# Altium schematic symbol library Components - 02.12.20 - 13.48.SchLib: 1 symbol
Pins are listed as number, name and electrical type; pins without a type are passive.

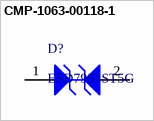
[diagram p0: symbol CMP-1063-00118-1]

## CMP-1063-00118-1
designator D?, comment ESD7951ST5G
Transient Voltage Suppressor, ESD Protection Diode with Ultra-Low Capacitance, 2-Pin SOD-923, Pb-Free, Tape and Reel; Manufacturer: On Semiconductor; C Max (pF): 0.9; VRWM Max (V): 5; IR Max (uA): 1; V(BR) Min (V): 5.4; Direction: Bidirectional; PackageReference: SOD-923-2-514AB-01; ComponentLink1URL: http://www.onsemi.com/; RoHS: Pb-Free; Packing: Tape and Reel; PartNumber: ESD7951ST5G; ComponentLink2URL: http://www.onsemi.cn/pub_link/Collateral/ESD7951S-D.PDF; ComponentLink1Description: Manufacturer URL; PackageDescription: 2-Pin SOD, Body 0.8 x 0.6 mm; PackageVersion: Rev. C, 03/2011; ComponentLink3URL: http://www.onsemi.com/pub_link/Collateral/514AB.PDF; Mounting Technology: Surface Mount; ComponentLink3Description: Package Specification; DatasheetVersion: Rev. 2; Number of Lines: 1; ComponentLink2Description: Datasheet
footprint ONSC-SOD-923-2-514AB-01_V (SOD, 2-Leads, Body 0.8x0.6mm)
pins: 1 A1, 2 A2